# EAGLE library part 750817015 (library Eagle_WE-OLEE (rev23a))
MID-OLEE EE-Style Offline Flyback Transformers Characteristics Switching Frequency 50-150kHz Low real estate Extended Rails Reinforced Insulation IEC60950-1, EN60950-1, UL60950-1/CSA60950-1 and AS/NZS60950.1 Operating Temp: -40°C to +125°C Applications Offline Switching Power Power Electronics Electronic Ballasts White Goods Industrial Controls Industrial Telecom Metering LED Lighting <https://www.we-online.com/catalog/media/o32894v209%20Family_MID-OLEE.jpg> Details see: https://www.we-online.com/catalog/en/MID-OLEE Created by Ella Wu 2020-10-21 2020 (C) Wurth Elektronik
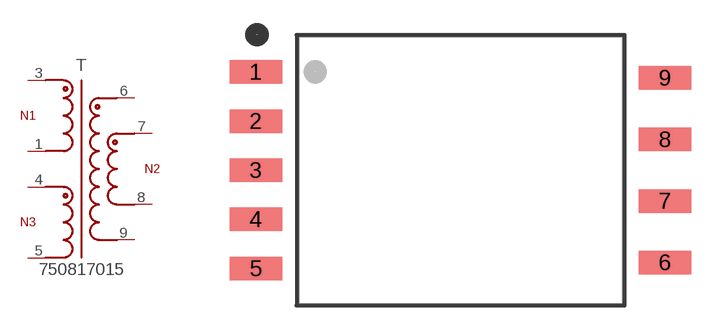
[diagram p11: symbol with the pads of WE-OLEE_EE13/7/4; footprint WE-OLEE_EE13/7/4]

Designator prefix T

## 750817015 (DATASHEET-URL: https://www.we-online.com/redexpert/spec/750817015?ae; F-SWTICH: 150kHz; HEIGHT: 11mm; IOUT1: 0.9A; ISAT1: 0.875A; L1: 0.491mH; LENGTH: 13.8mm; MOUNT: SMT; N: 13.14:1:3; PART-NUMBER: 750817015; VALUE: 750817015; VAUX: 16V; VIN: 55 - 265 V (AC); VOUT1: 5V; VT: 3000V (AC); WIDTH: 23.9mm)  [WE-OLEE_EE13/7/4]
1  1  pas
3  3  pas
4  4  pas
5  5  pas
6  6  pas
7  7  pas
8  8  pas
9  9  pas

## Footprint WE-OLEE_EE13/7/4 (pad centres in mm)
WE-OLEE EE-Style Offline Flyback Transformers Size: EE13/7/4,SMT,9pins LXWXH=13.8X23.9X11mm
smd 2.72 x 1.21: 1 -10.56,5.08; 2 -10.56,2.54; 3 -10.56,0; 4 -10.56,-2.54; 5 -10.56,-5.08; 6 10.56,-4.77; 7 10.56,-1.59; 8 10.56,1.59; 9 10.56,4.77